# Altium footprint library PCB14.PcbLib: 11 footprints
Each footprint in its own frame and in the unit in brackets; x right, y up, seen from the top. Pads: shape width x height; smd on the part's side, far side on the other; paste and mask are expansions set on the pad; w line width, h text height; cw(c..) or ccw(c..) is an arc to the next point about the centre after c.
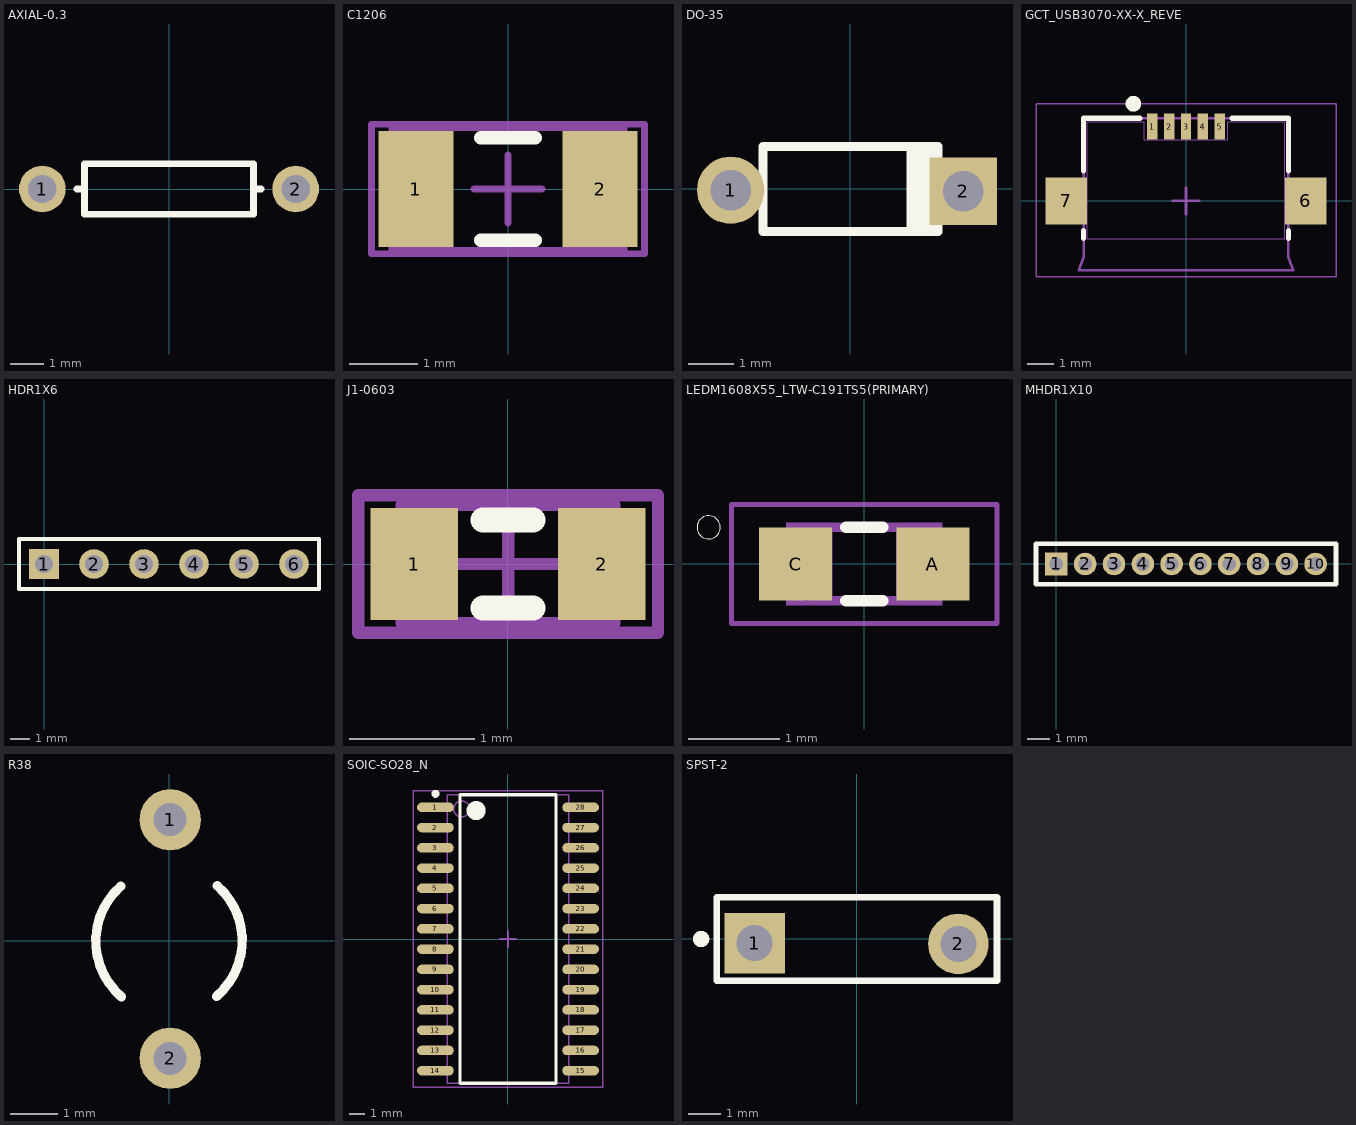
[diagram p0: the footprints below, top view; thin cyan lines are the x and y axes]

## AXIAL-0.3 [mm] "Axial Device, Thru-Hole; 2 Leads; 0.3 in Pin Spacing"
height 1.524
pads (2):
  round 1.4 hole 0.85: 1(-3.81,0) 2(3.81,0)
Top Overlay:
  lines w0.2: -2.769,0 -2.54,0 ; 2.769,0 2.54,0 ; 2.54,0 2.54,-0.762 -2.54,-0.762 -2.54,0.762 2.54,0.762 2.54,0
3D body "CircuitWorks-RESISTOR 7_62MM DIP.step": height 2.27, standoff -1.73, extent -4.036,-0.984 4.064,1.016

## C1206 [mm] "Chip Capacitor, Body 3.2x1.6mm, IPC High Density"
height 1.3
pads (2):
  rect 1.1x1.7 smd: 1(-1.35,0) 2(1.35,0)
Top Overlay:
  lines w0.2: -0.4,-0.75 0.4,-0.75 ; -0.4,0.75 0.4,0.75
Mechanical 13:
  lines w0.1: -1.7,-0.9 1.7,-0.9 1.7,0.9 -1.7,0.9 -1.7,-0.9
Mechanical 15:
  lines w0.1: -0.5,0 0.5,0 ; 0,-0.5 0,0.5 ; -2,-0.95 2,-0.95 2,0.95 -2,0.95 -2,-0.95
3D body "User Library-Capacitors tantalum 10uF 10V.step": height 1.91, standoff 0, extent -1.753,-1.397 1.747,1.403

## DO-35 [mm] "Diode, Axial; Body 3.8 x 1.9 mm (LxDia. max), Lead Dia. 0.53 mm (max)"
height 1.9
pads (2):
  round 1.5 hole 0.9: 1(-2.667,-0.025)
  rect 1.5x1.5 hole 0.9: 2(2.515,-0.051)
Top Overlay:
  rectangle: 1.25,-0.95 2.05,0.95
  lines w0.2: 1.95,-0.95 -1.95,-0.95 -1.95,0.95 1.95,0.95
3D body "Diode 1N4148.step": height 1.76, standoff -1.07, extent -2.705,-0.889 2.807,0.761

## GCT_USB3070-XX-X_REVE [mm]
pads (7):
  rect 0.4x1 smd: 1(-1.3,2.85) 2(-0.65,2.85) 3(0,2.85) 4(0.65,2.85) 5(1.3,2.85)
  rect 1.6x1.8 smd: 6(4.6,0) 7(-4.6,0)
Top Overlay:
  circle w0.4: c-2.022,3.734 r0.1
  lines w0.2: -3.937,-1.448 -3.937,-1.143 ; -3.937,1.143 -3.937,3.175 -1.778,3.175 ; 1.778,3.175 3.937,3.175 3.937,1.143 ; 3.937,-1.448 3.937,-1.143
Mechanical 1:
  lines w0.01: -3.8,-1.45 -3.8,3.05 -1.6,3.045 -1.6,2.35 1.6,2.35 1.6,3.045 3.8,3.05 3.8,-1.45 -3.8,-1.45
  lines w0.05: -5.766,-2.921 -5.766,3.734 5.766,3.734 5.766,-2.921 -5.766,-2.921
  lines w0.1: -0.508,0 0.508,0 ; 0,-0.508 0,0.508 ; -4.115,-2.667 -3.937,-2.159 -3.937,3.175 3.937,3.175 3.937,-2.159 4.115,-2.667 -4.115,-2.667
3D body "Micro USB 2.0.STEP": height 2.77, standoff -0.23, extent -4.38,-2.698 4.42,2.902

## HDR1X6 [mm] "Connector; Header; 6 Position"
height 3.9
pads (6):
  rect 1.5x1.5 hole 0.9: 1(0,0)
  round 1.5 hole 0.9: 2(2.54,0) 3(5.08,0) 4(7.62,0) 5(10.16,0) 6(12.7,0)
Top Overlay:
  lines w0.2: -1.27,-1.27 -1.27,1.27 13.97,1.27 13.97,-1.27 -1.27,-1.27
3D body "User Library-Header_Male_RA_Low_6Pin.STEP": height 2.57, standoff -2.95, extent -1.27,-0.254 13.97,9.876

## J1-0603 [mm] "Chip Resistor, Body 1.6x0.8mm, IPC High Density"
height 0.9
pads (2):
  rect 0.7x0.9 smd: 1(-0.75,0) 2(0.75,0)
Top Overlay:
  lines w0.2: -0.2,-0.35 0.2,-0.35 ; -0.2,0.35 0.2,0.35
Mechanical 13:
  lines w0.1: -0.85,-0.475 0.85,-0.475 0.85,0.475 -0.85,0.475 -0.85,-0.475
Mechanical 15:
  lines w0.1: -0.475,0 0.475,0 ; 0,-0.475 0,0.475 ; -1.2,-0.55 1.2,-0.55 1.2,0.55 -1.2,0.55 -1.2,-0.55
3D body: height 0.9, standoff 0, extent -0.85,-0.475 0.85,0.475

## LEDM1608X55_LTW-C191TS5(PRIMARY) [mm]
height 3.9
pads (2):
  rect 0.8x0.8 smd: A(0.75,0) C(-0.75,0)
Top Overlay:
  circle w0: c-1.7,0.4 r0.127
  lines w0.127: -0.2,-0.4 0.2,-0.4 ; -0.2,0.4 0.2,0.4
Mechanical 1:
  circle w0.051: c-0.625,-0.35 r0.075
  region: 0.55,0.175 0.55,0.275 0.65,0.275 0.65,0.175
  region: 0.55,-0.275 0.55,-0.175 0.65,-0.175 0.65,-0.275
  region: 0.35,-0.275 0.35,0.275 0.575,0.275 0.575,-0.275
  region: 0.35,0.25 0.35,0.45 0.85,0.45 0.85,0.25
  region: 0.35,-0.45 0.35,-0.25 0.85,-0.25 0.85,-0.45
  region: -0.575,-0.45 -0.575,0.45 -0.35,0.45 -0.35,-0.45
  region: -0.85,0.25 -0.85,0.45 -0.55,0.45 -0.55,0.25
  region: -0.725,-0.45 -0.725,-0.4 -0.35,-0.4 -0.35,-0.45
  region: -0.6,-0.275 -0.6,-0.225 -0.55,-0.225 -0.55,-0.275
  region: -0.85,-0.45 -0.85,-0.25 -0.7,-0.25 -0.7,-0.45
  lines w0.05: -1.45,-0.65 -1.45,0.65 1.45,0.65 1.45,-0.65 -1.45,-0.65
  lines w0.051: 0.825,-0.275 cw(c0.825,0) 0.825,0.275
  lines w0.102: -0.8,-0.3 ccw(c-0.826,0) -0.8,0.3 ; -0.375,-0.4 0.35,-0.4 ; -0.35,0.4 0.35,0.4
3D body "SW3DPS-LED 1206-DEFAULT.STEP": height 1.1, standoff 0, extent -1.6,-0.8 1.6,0.8

## MHDR1X10 [mm] "Connector; Header; 10 Position"
pads (10):
  rect 1x1 hole 0.6: 1(0,0)
  round 1 hole 0.6: 2(1.27,0) 3(2.54,0) 4(3.81,0) 5(5.08,0) 6(6.35,0) 7(7.62,0) 8(8.89,0) 9(10.16,0) 10(11.43,0)
Top Overlay:
  lines w0.2: -0.9,-0.9 12.33,-0.9 12.33,0.9 -0.9,0.9 -0.9,-0.9
3D body "m52-5001045.stp": height 2.52, standoff -5.08, extent -0.66,-1.206 12.04,1.194

## R38 [mm] "Crystal, Thru-Hole; 2 Leads; Body 3.1 x 8.2 mm (Dia.xH)"
height 8.2
pads (2):
  round 1.3 hole 0.7: 1(0.025,2.565) 2(0.025,-2.489)
Top Overlay:
  lines w0.2: -1.022,1.155 ccw(c0,-0.01) -1.006,-1.189 ; 1.006,-1.179 ccw(c0,0) 1.022,1.165
3D body "XTAL2.step": height 3.09, standoff -2.54, extent -1.499,-5.283 1.549,5.385

## SOIC-SO28_N [mm] "SOIC, 28-Leads, Body 17.9x7.5mm, Pitch 1.27mm, IPC Medium Density"
height 2.65
pads (28):
  oval 2.3x0.6 smd: 1(-4.55,8.255) 2(-4.55,6.985) 3(-4.55,5.715) 4(-4.55,4.445) 5(-4.55,3.175) 6(-4.55,1.905) 7(-4.55,0.635) 8(-4.55,-0.635) 9(-4.55,-1.905) 10(-4.55,-3.175) 11(-4.55,-4.445) 12(-4.55,-5.715) 13(-4.55,-6.985) 14(-4.55,-8.255) 15(4.55,-8.255) 16(4.55,-6.985) 17(4.55,-5.715) 18(4.55,-4.445) 19(4.55,-3.175) 20(4.55,-1.905) 21(4.55,-0.635) 22(4.55,0.635) 23(4.55,1.905) 24(4.55,3.175) 25(4.55,4.445) 26(4.55,5.715) 27(4.55,6.985) 28(4.55,8.255)
Top Overlay:
  circle w0.6: c-2,8.05 r0.3
  circle w0.25: c-4.55,9.105 r0.125
  lines w0.2: -3,-9.05 3,-9.05 3,9.05 -3,9.05 -3,-9.05
Mechanical 13:
  circle w0.1: c-2.9,8.155 r0.5
  lines w0.1: -3.8,-9.055 3.8,-9.055 3.8,9.055 -3.8,9.055 -3.8,-9.055
Mechanical 15:
  lines w0.1: -0.5,0 0.5,0 ; 0,-0.5 0,0.5 ; -5.95,-9.3 5.95,-9.3 5.95,9.3 -5.95,9.3 -5.95,-9.3
3D body "User Library-28-SOIC.step": height 2.72, standoff -0.03, extent -5.207,-8.925 5.093,8.975

## SPST-2 [mm] "Switch; 2 Leads"
pads (2):
  rect 1.85x1.85 hole 1.1: 1(-3.124,-0.127)
  round 1.85 hole 1.1: 2(3.099,-0.152)
Top Overlay:
  circle w0.25: c-4.761,-0.001 r0.125
  lines w0.2: -4.28,-1.27 -4.28,1.27 4.28,1.27 4.28,-1.27 -4.28,-1.27
3D body "User Library-SW BUTTON IT-0350.step": height 5, standoff -3.5, extent -3.839,-1.925 3.839,1.575